# Altium integrated library NSC Amplifier.IntLib: 1615 symbols (part 36 of 44)
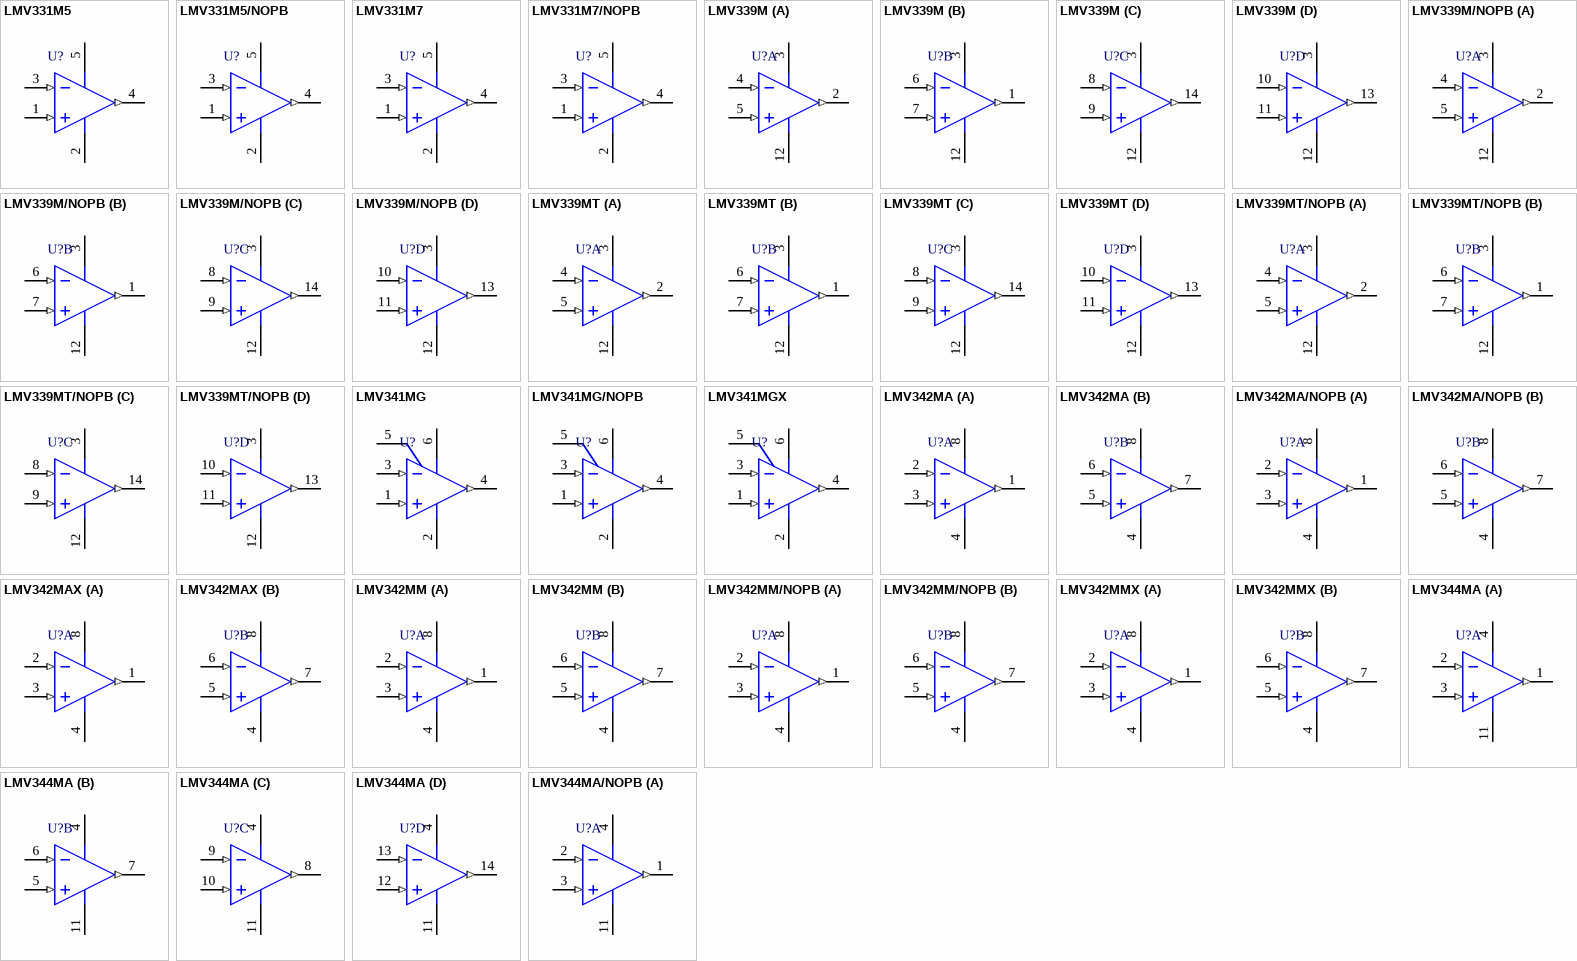
[diagram p117: symbols LMV331M5 to LMV344MA/NOPB]

## LMV344MA
designator U?
Single with Shutdown/Dual/Quad General Purpose, 2.7V,Rail-to-Rail Output, 125°C, Operational Amplifiers, 14-pin Narrow SOIC; PartNumber: LMV344MA; Manufacturer: National Semiconductor; PackageTopMarking: NSUZXYTTE#*LMV344MA; PowerWise: N; Published: 4-Dec-2008; LatestRevisionDate: 13-Jan-2009; LatestRevisionNote: Sim Model Added.; DatasheetVersion: Jan-2008; PackageVersion: revJ, Jan-1996; PackageReference: M14A; Publisher: Altium Limited; PackageDescription: Molded Package S.O., .150in Wide, 14 Lead; Supplier 1: Farnell; Supplier Part Number 1: 9490604; RoHS: N; PinCount: 14; CompType: Amplifiers; Code_JEDEC: MS-012AB; Code_IPC: SOIC127P600-14; ComponentLink1Description: LMV344 Datasheet; ComponentLink1URL: http://www.national.com/ds/LM/LMV344.pdf; ComponentLink2Description: LMV344 Web Page; ComponentLink2URL: http://www.national.com/pf/LM/LMV344.html; ComponentLink3Description: M14A Package Page; ComponentLink3URL: http://www.national.com/packaging/folders/m14a.html
footprint M14A_N (SOIC, 14-Leads, Body 8.6x3.9mm, Pitch 1.27mm, IPC Medium Density)
footprint M14A_L (SOIC, 14-Leads, Body 8.6x3.9mm, Pitch 1.27mm, IPC High Density)
footprint M14A_M (SOIC, 14-Leads, Body 8.6x3.9mm, Pitch 1.27mm, IPC Low Density)
simulation model LMV342 (SUBCKT)
pins on every part: 4 V+ (power), 11 V- (power)
part A pins: 1 OUTA (out), 2 INA- (in), 3 INA+ (in)
part B pins: 5 INB+ (in), 6 INB- (in), 7 OUTB (out)
part C pins: 8 OUTC (out), 9 INC- (in), 10 INC+ (in)
part D pins: 12 IND+ (in), 13 IND- (in), 14 OUTD (out)

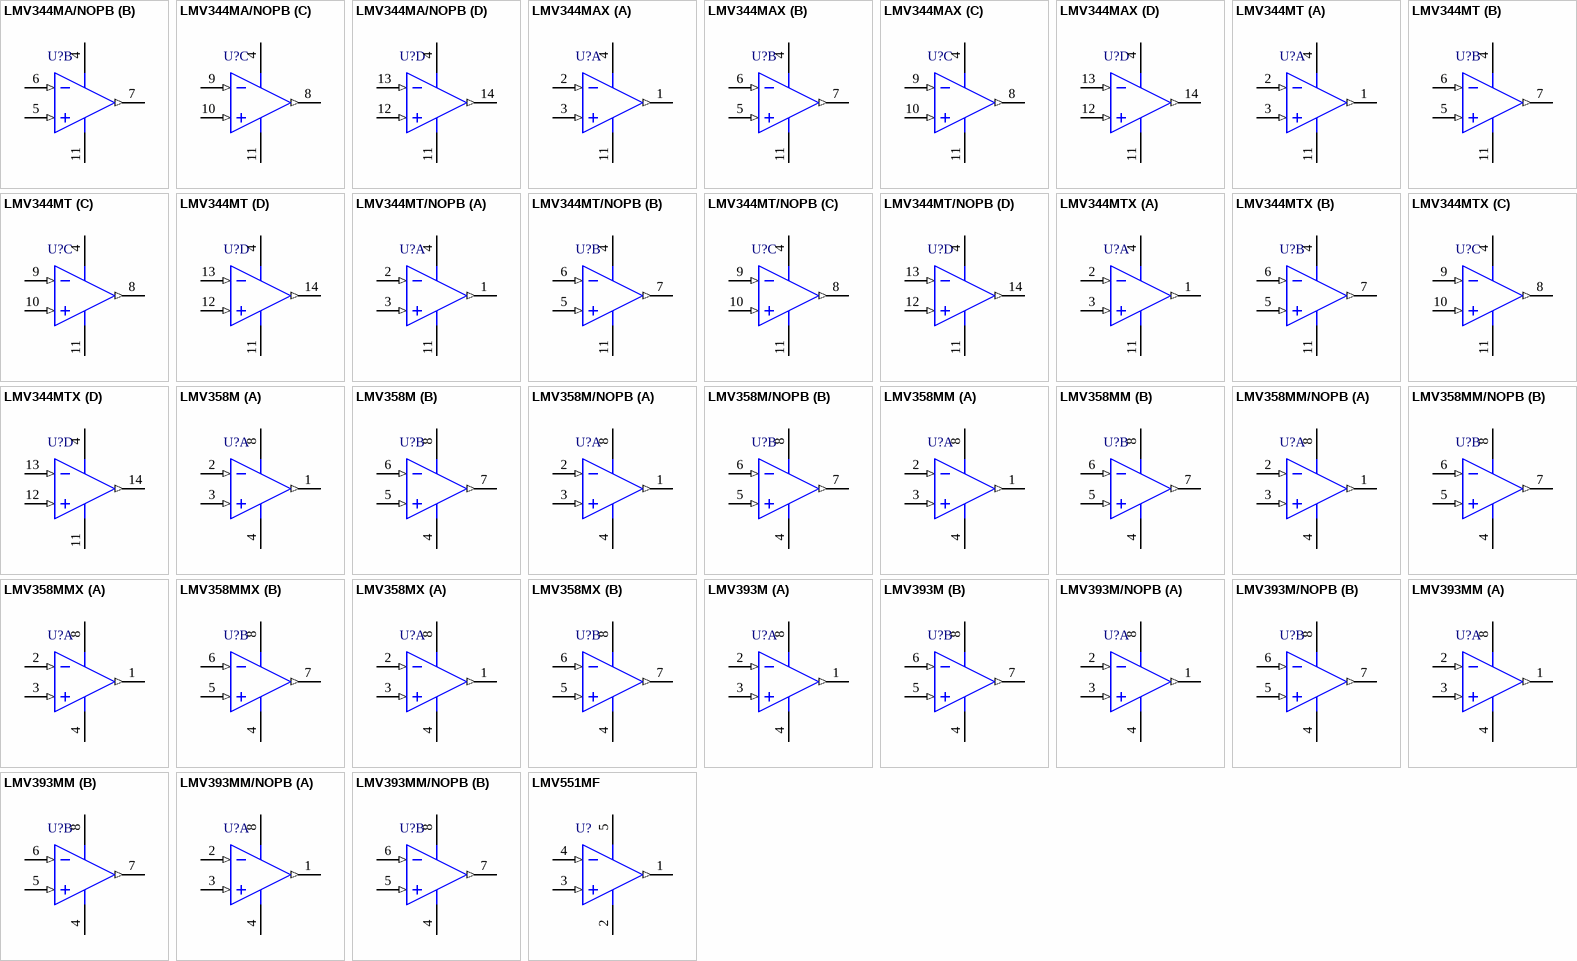
[diagram p67: symbols LMV344MA/NOPB to LMV551MF]

## LMV344MA/NOPB
designator U?
Single with Shutdown/Dual/Quad General Purpose, 2.7V,Rail-to-Rail Output, 125°C, Operational Amplifiers, 14-pin Narrow SOIC, Pb-Free; PartNumber: LMV344MA/NOPB; Manufacturer: National Semiconductor; PackageTopMarking: NSUZXYTTE#*LMV344MA; PowerWise: N; Published: 1-Mar-2010; DatasheetVersion: Jan-2008; PackageVersion: revJ, Jan-1996; PackageReference: M14A; Publisher: Altium Limited; PackageDescription: Molded Package S.O., .150in Wide, 14 Lead; Supplier 1: Digi-Key; Supplier Part Number 1: LMV344MA-ND; RoHS: Y; PinCount: 14; CompType: Amplifiers; Code_JEDEC: MS-012AB; Code_IPC: SOIC127P600-14; ComponentLink1Description: LMV344 Datasheet; ComponentLink1URL: http://www.national.com/ds/LM/LMV344.pdf; ComponentLink2Description: LMV344 Web Page; ComponentLink2URL: http://www.national.com/pf/LM/LMV344.html; ComponentLink3Description: M14A Package Page; ComponentLink3URL: http://www.national.com/packaging/folders/m14a.html
footprint M14A_N (SOIC, 14-Leads, Body 8.6x3.9mm, Pitch 1.27mm, IPC Medium Density)
footprint M14A_L (SOIC, 14-Leads, Body 8.6x3.9mm, Pitch 1.27mm, IPC High Density)
footprint M14A_M (SOIC, 14-Leads, Body 8.6x3.9mm, Pitch 1.27mm, IPC Low Density)
simulation model LMV342 (SUBCKT)
pins on every part: 4 V+ (power), 11 V- (power)
part A pins: 1 OUTA (out), 2 INA- (in), 3 INA+ (in)
part B pins: 5 INB+ (in), 6 INB- (in), 7 OUTB (out)
part C pins: 8 OUTC (out), 9 INC- (in), 10 INC+ (in)
part D pins: 12 IND+ (in), 13 IND- (in), 14 OUTD (out)

## LMV344MAX
designator U?
Single with Shutdown/Dual/Quad General Purpose, 2.7V,Rail-to-Rail Output, 125°C, Operational Amplifiers, 14-pin Narrow SOIC; PartNumber: LMV344MAX; Manufacturer: National Semiconductor; PackageTopMarking: NSUZXYTTE#*LMV344MA; PowerWise: N; Published: 1-Mar-2010; DatasheetVersion: Jan-2008; PackageVersion: revJ, Jan-1996; PackageReference: M14A; Publisher: Altium Limited; PackageDescription: Molded Package S.O., .150in Wide, 14 Lead; RoHS: N; PinCount: 14; CompType: Amplifiers; Code_JEDEC: MS-012AB; Code_IPC: SOIC127P600-14; ComponentLink1Description: LMV344 Datasheet; ComponentLink1URL: http://www.national.com/ds/LM/LMV344.pdf; ComponentLink2Description: LMV344 Web Page; ComponentLink2URL: http://www.national.com/pf/LM/LMV344.html; ComponentLink3Description: M14A Package Page; ComponentLink3URL: http://www.national.com/packaging/folders/m14a.html
footprint M14A_N (SOIC, 14-Leads, Body 8.6x3.9mm, Pitch 1.27mm, IPC Medium Density)
footprint M14A_L (SOIC, 14-Leads, Body 8.6x3.9mm, Pitch 1.27mm, IPC High Density)
footprint M14A_M (SOIC, 14-Leads, Body 8.6x3.9mm, Pitch 1.27mm, IPC Low Density)
simulation model LMV342 (SUBCKT)
pins on every part: 4 V+ (power), 11 V- (power)
part A pins: 1 OUTA (out), 2 INA- (in), 3 INA+ (in)
part B pins: 5 INB+ (in), 6 INB- (in), 7 OUTB (out)
part C pins: 8 OUTC (out), 9 INC- (in), 10 INC+ (in)
part D pins: 12 IND+ (in), 13 IND- (in), 14 OUTD (out)

## LMV344MT
designator U?
Single with Shutdown/Dual/Quad General Purpose, 2.7V,Rail-to-Rail Output, 125°C, Operational Amplifiers, 14-pin TSSOP; PartNumber: LMV344MT; Manufacturer: National Semiconductor; PackageTopMarking: NSZXYTT*LMV34*4MT; PowerWise: N; Published: 4-Dec-2008; LatestRevisionDate: 13-Jan-2009; LatestRevisionNote: Sim Model Added.; DatasheetVersion: Jan-2008; PackageVersion: revD, Jun-2003; PackageReference: MTC14; Publisher: Altium Limited; PackageDescription: Molded TSSOP, JEDEC, 5 x 4.4 x 0.9mm Body, 14 Lead, 0.65mm Pitch; Supplier 1: Digi-Key; Supplier Part Number 1: LMV344MT-ND; Supplier 2: Farnell; Supplier Part Number 2: 1286954; RoHS: N; PinCount: 14; CompType: Amplifiers; Code_JEDEC: MO-153-AB-1; ComponentLink1Description: LMV344 Datasheet; ComponentLink1URL: http://www.national.com/ds/LM/LMV344.pdf; ComponentLink2Description: LMV344 Web Page; ComponentLink2URL: http://www.national.com/pf/LM/LMV344.html; ComponentLink3Description: MTC14 Package Page; ComponentLink3URL: http://www.national.com/packaging/folders/mtc14.html
footprint MTC14_N (TSOP, 14-Leads, Body 5x4.4mm, Pitch 0.65mm, IPC Medium Density)
footprint MTC14_L (TSOP, 14-Leads, Body 5x4.4mm, Pitch 0.65mm, IPC High Density)
footprint MTC14_M (TSOP, 14-Leads, Body 5x4.4mm, Pitch 0.65mm, IPC Low Density)
simulation model LMV342 (SUBCKT)
pins on every part: 4 V+ (power), 11 V- (power)
part A pins: 1 OUTA (out), 2 INA- (in), 3 INA+ (in)
part B pins: 5 INB+ (in), 6 INB- (in), 7 OUTB (out)
part C pins: 8 OUTC (out), 9 INC- (in), 10 INC+ (in)
part D pins: 12 IND+ (in), 13 IND- (in), 14 OUTD (out)

## LMV344MT/NOPB
designator U?
Single with Shutdown/Dual/Quad General Purpose, 2.7V,Rail-to-Rail Output, 125°C, Operational Amplifiers, 14-pin TSSOP, Pb-Free; PartNumber: LMV344MT/NOPB; Manufacturer: National Semiconductor; PackageTopMarking: NSZXYTT*LMV34*4MT; PowerWise: N; Published: 1-Mar-2010; DatasheetVersion: Jan-2008; PackageVersion: revD, Jun-2003; PackageReference: MTC14; Publisher: Altium Limited; PackageDescription: Molded TSSOP, JEDEC, 5 x 4.4 x 0.9mm Body, 14 Lead, 0.65mm Pitch; Supplier 1: Digi-Key; Supplier Part Number 1: LMV344MT/NOPB-ND; Supplier 2: Farnell; Supplier Part Number 2: 1693972; RoHS: Y; PinCount: 14; CompType: Amplifiers; Code_JEDEC: MO-153-AB-1; ComponentLink1Description: LMV344 Datasheet; ComponentLink1URL: http://www.national.com/ds/LM/LMV344.pdf; ComponentLink2Description: LMV344 Web Page; ComponentLink2URL: http://www.national.com/pf/LM/LMV344.html; ComponentLink3Description: MTC14 Package Page; ComponentLink3URL: http://www.national.com/packaging/folders/mtc14.html
footprint MTC14_N (TSOP, 14-Leads, Body 5x4.4mm, Pitch 0.65mm, IPC Medium Density)
footprint MTC14_L (TSOP, 14-Leads, Body 5x4.4mm, Pitch 0.65mm, IPC High Density)
footprint MTC14_M (TSOP, 14-Leads, Body 5x4.4mm, Pitch 0.65mm, IPC Low Density)
simulation model LMV342 (SUBCKT)
pins on every part: 4 V+ (power), 11 V- (power)
part A pins: 1 OUTA (out), 2 INA- (in), 3 INA+ (in)
part B pins: 5 INB+ (in), 6 INB- (in), 7 OUTB (out)
part C pins: 8 OUTC (out), 9 INC- (in), 10 INC+ (in)
part D pins: 12 IND+ (in), 13 IND- (in), 14 OUTD (out)

## LMV344MTX
designator U?
Single with Shutdown/Dual/Quad General Purpose, 2.7V,Rail-to-Rail Output, 125°C, Operational Amplifiers, 14-pin TSSOP; PartNumber: LMV344MTX; Manufacturer: National Semiconductor; PackageTopMarking: NSZXYTT*LMV34*4MT; PowerWise: N; Published: 1-Mar-2010; DatasheetVersion: Jan-2008; PackageVersion: revD, Jun-2003; PackageReference: MTC14; Publisher: Altium Limited; PackageDescription: Molded TSSOP, JEDEC, 5 x 4.4 x 0.9mm Body, 14 Lead, 0.65mm Pitch; Supplier 1: Digi-Key; Supplier Part Number 1: LMV344MTXTR-ND; Supplier 2: Digi-Key; Supplier Part Number 2: LMV344MTXCT-ND; RoHS: N; PinCount: 14; CompType: Amplifiers; Code_JEDEC: MO-153-AB-1; ComponentLink1Description: LMV344 Datasheet; ComponentLink1URL: http://www.national.com/ds/LM/LMV344.pdf; ComponentLink2Description: LMV344 Web Page; ComponentLink2URL: http://www.national.com/pf/LM/LMV344.html; ComponentLink3Description: MTC14 Package Page; ComponentLink3URL: http://www.national.com/packaging/folders/mtc14.html
footprint MTC14_N (TSOP, 14-Leads, Body 5x4.4mm, Pitch 0.65mm, IPC Medium Density)
footprint MTC14_L (TSOP, 14-Leads, Body 5x4.4mm, Pitch 0.65mm, IPC High Density)
footprint MTC14_M (TSOP, 14-Leads, Body 5x4.4mm, Pitch 0.65mm, IPC Low Density)
simulation model LMV342 (SUBCKT)
pins on every part: 4 V+ (power), 11 V- (power)
part A pins: 1 OUTA (out), 2 INA- (in), 3 INA+ (in)
part B pins: 5 INB+ (in), 6 INB- (in), 7 OUTB (out)
part C pins: 8 OUTC (out), 9 INC- (in), 10 INC+ (in)
part D pins: 12 IND+ (in), 13 IND- (in), 14 OUTD (out)

## LMV358M
designator U?
General Purpose, Low Voltage, Rail-to-Rail Output Operational Amplifiers, 8-pin Narrow SOIC; PartNumber: LMV358M; Manufacturer: National Semiconductor; PackageTopMarking: NSZXTT*LMV*358M; PowerWise: N; Published: 4-Dec-2008; LatestRevisionDate: 13-Jan-2009; LatestRevisionNote: Sim Model Added.; DatasheetVersion: Sep-2009; PackageVersion: revM, May-2009; PackageReference: M08A; Publisher: Altium Limited; PackageDescription: SOIC Narrow, 4.9 x 3.9 x 1.45mm, 8 Lead, 1.27mm Pitch; Supplier 1: Farnell; Supplier Part Number 1: 9306730; RoHS: N; PinCount: 8; CompType: Amplifiers; Code_JEDEC: MS-012-AA; Code_IPC: SOIC127P600-8; ComponentLink1Description: LMV358 Datasheet; ComponentLink1URL: http://www.national.com/ds/LM/LMV358.pdf; ComponentLink2Description: LMV358 Web Page; ComponentLink2URL: http://www.national.com/pf/LM/LMV358.html; ComponentLink3Description: M08A Package Page; ComponentLink3URL: http://www.national.com/packaging/folders/m08a.html
footprint M08A_N (SOIC, 8-Leads, Body 4.9x3.9mm, Pitch 1.27mm, IPC Medium Density)
footprint M08A_L (SOIC, 8-Leads, Body 4.9x3.9mm, Pitch 1.27mm, IPC High Density)
footprint M08A_M (SOIC, 8-Leads, Body 4.9x3.9mm, Pitch 1.27mm, IPC Low Density)
simulation model LMV358 (SUBCKT)
pins on every part: 4 V- (power), 8 V+ (power)
part A pins: 1 OUTA (out), 2 INA- (in), 3 INA+ (in)
part B pins: 5 INB+ (in), 6 INB- (in), 7 OUTB (out)

## LMV358M/NOPB
designator U?
General Purpose, Low Voltage, Rail-to-Rail Output Operational Amplifiers, 8-pin Narrow SOIC, Pb-Free; PartNumber: LMV358M/NOPB; Manufacturer: National Semiconductor; PackageTopMarking: NSZXTT*LMV*358M; PowerWise: N; Published: 1-Mar-2010; DatasheetVersion: Sep-2009; PackageVersion: revM, May-2009; PackageReference: M08A; Publisher: Altium Limited; PackageDescription: SOIC Narrow, 4.9 x 3.9 x 1.45mm, 8 Lead, 1.27mm Pitch; Supplier 1: Digi-Key; Supplier Part Number 1: LMV358M-ND; Supplier 2: Farnell; Supplier Part Number 2: 1202969; RoHS: Y; PinCount: 8; CompType: Amplifiers; Code_JEDEC: MS-012-AA; Code_IPC: SOIC127P600-8; ComponentLink1Description: LMV358 Datasheet; ComponentLink1URL: http://www.national.com/ds/LM/LMV358.pdf; ComponentLink2Description: LMV358 Web Page; ComponentLink2URL: http://www.national.com/pf/LM/LMV358.html; ComponentLink3Description: M08A Package Page; ComponentLink3URL: http://www.national.com/packaging/folders/m08a.html
footprint M08A_N (SOIC, 8-Leads, Body 4.9x3.9mm, Pitch 1.27mm, IPC Medium Density)
footprint M08A_L (SOIC, 8-Leads, Body 4.9x3.9mm, Pitch 1.27mm, IPC High Density)
footprint M08A_M (SOIC, 8-Leads, Body 4.9x3.9mm, Pitch 1.27mm, IPC Low Density)
simulation model LMV358 (SUBCKT)
pins on every part: 4 V- (power), 8 V+ (power)
part A pins: 1 OUTA (out), 2 INA- (in), 3 INA+ (in)
part B pins: 5 INB+ (in), 6 INB- (in), 7 OUTB (out)

## LMV358MM
designator U?
General Purpose, Low Voltage, Rail-to-Rail Output Operational Amplifiers, 8-pin Mini SOIC; PartNumber: LMV358MM; Manufacturer: National Semiconductor; PackageTopMarking: ZXTT*V358; PowerWise: N; Published: 4-Dec-2008; LatestRevisionDate: 13-Jan-2009; LatestRevisionNote: Sim Model Added.; DatasheetVersion: Sep-2009; PackageVersion: revF, Apr-2008; PackageReference: MUA08A; Publisher: Altium Limited; PackageDescription: MINI SOIC, .118 x .118 x .034in, 8 Lead, .0256in Pitch; Supplier 1: Digi-Key; Supplier Part Number 1: LMV358MMTR-ND; Supplier 2: Digi-Key; Supplier Part Number 2: LMV358MMCT-ND; RoHS: N; PinCount: 8; CompType: Amplifiers; Code_JEDEC: MO-187-AA; ComponentLink1Description: LMV358 Datasheet; ComponentLink1URL: http://www.national.com/ds/LM/LMV358.pdf; ComponentLink2Description: LMV358 Web Page; ComponentLink2URL: http://www.national.com/pf/LM/LMV358.html; ComponentLink3Description: MUA08A Package Page; ComponentLink3URL: http://www.national.com/packaging/folders/mua08a.html
footprint MUA08A_N (TSOP, 8-Leads, Body 3x3mm, Pitch 0.65mm, IPC Medium Density)
footprint MUA08A_L (TSOP, 8-Leads, Body 3x3mm, Pitch 0.65mm, IPC High Density)
footprint MUA08A_M (TSOP, 8-Leads, Body 3x3mm, Pitch 0.65mm, IPC Low Density)
simulation model LMV358 (SUBCKT)
pins on every part: 4 V- (power), 8 V+ (power)
part A pins: 1 OUTA (out), 2 INA- (in), 3 INA+ (in)
part B pins: 5 INB+ (in), 6 INB- (in), 7 OUTB (out)

## LMV358MM/NOPB
designator U?
General Purpose, Low Voltage, Rail-to-Rail Output Operational Amplifiers, 8-pin Mini SOIC, Pb-Free; PartNumber: LMV358MM/NOPB; Manufacturer: National Semiconductor; PackageTopMarking: ZXTT*V358; PowerWise: N; Published: 1-Mar-2010; DatasheetVersion: Sep-2009; PackageVersion: revF, Apr-2008; PackageReference: MUA08A; Publisher: Altium Limited; PackageDescription: MINI SOIC, .118 x .118 x .034in, 8 Lead, .0256in Pitch; Supplier 1: Digi-Key; Supplier Part Number 1: LMV358MM/NOPBTR-ND; Supplier 2: Digi-Key; Supplier Part Number 2: LMV358MM/NOPBCT-ND; Supplier 3: Digi-Key; Supplier Part Number 3: LMV358MM/NOPBDKR-ND; Supplier 4: Farnell; Supplier Part Number 4: 1468904; RoHS: Y; PinCount: 8; CompType: Amplifiers; Code_JEDEC: MO-187-AA; ComponentLink1Description: LMV358 Datasheet; ComponentLink1URL: http://www.national.com/ds/LM/LMV358.pdf; ComponentLink2Description: LMV358 Web Page; ComponentLink2URL: http://www.national.com/pf/LM/LMV358.html; ComponentLink3Description: MUA08A Package Page; ComponentLink3URL: http://www.national.com/packaging/folders/mua08a.html
footprint MUA08A_N (TSOP, 8-Leads, Body 3x3mm, Pitch 0.65mm, IPC Medium Density)
footprint MUA08A_L (TSOP, 8-Leads, Body 3x3mm, Pitch 0.65mm, IPC High Density)
footprint MUA08A_M (TSOP, 8-Leads, Body 3x3mm, Pitch 0.65mm, IPC Low Density)
simulation model LMV358 (SUBCKT)
pins on every part: 4 V- (power), 8 V+ (power)
part A pins: 1 OUTA (out), 2 INA- (in), 3 INA+ (in)
part B pins: 5 INB+ (in), 6 INB- (in), 7 OUTB (out)

## LMV358MMX
designator U?
General Purpose, Low Voltage, Rail-to-Rail Output Operational Amplifiers, 8-pin Mini SOIC; PartNumber: LMV358MMX; Manufacturer: National Semiconductor; PackageTopMarking: ZXTT*V358; PowerWise: N; Published: 1-Mar-2010; DatasheetVersion: Sep-2009; PackageVersion: revF, Apr-2008; PackageReference: MUA08A; Publisher: Altium Limited; PackageDescription: MINI SOIC, .118 x .118 x .034in, 8 Lead, .0256in Pitch; RoHS: N; PinCount: 8; CompType: Amplifiers; Code_JEDEC: MO-187-AA; ComponentLink1Description: LMV358 Datasheet; ComponentLink1URL: http://www.national.com/ds/LM/LMV358.pdf; ComponentLink2Description: LMV358 Web Page; ComponentLink2URL: http://www.national.com/pf/LM/LMV358.html; ComponentLink3Description: MUA08A Package Page; ComponentLink3URL: http://www.national.com/packaging/folders/mua08a.html
footprint MUA08A_N (TSOP, 8-Leads, Body 3x3mm, Pitch 0.65mm, IPC Medium Density)
footprint MUA08A_L (TSOP, 8-Leads, Body 3x3mm, Pitch 0.65mm, IPC High Density)
footprint MUA08A_M (TSOP, 8-Leads, Body 3x3mm, Pitch 0.65mm, IPC Low Density)
simulation model LMV358 (SUBCKT)
pins on every part: 4 V- (power), 8 V+ (power)
part A pins: 1 OUTA (out), 2 INA- (in), 3 INA+ (in)
part B pins: 5 INB+ (in), 6 INB- (in), 7 OUTB (out)

## LMV358MX
designator U?
General Purpose, Low Voltage, Rail-to-Rail Output Operational Amplifiers, 8-pin Narrow SOIC; PartNumber: LMV358MX; Manufacturer: National Semiconductor; PackageTopMarking: NSZXTT*LMV*358M; PowerWise: N; Published: 1-Mar-2010; DatasheetVersion: Sep-2009; PackageVersion: revM, May-2009; PackageReference: M08A; Publisher: Altium Limited; PackageDescription: SOIC Narrow, 4.9 x 3.9 x 1.45mm, 8 Lead, 1.27mm Pitch; RoHS: N; PinCount: 8; CompType: Amplifiers; Code_JEDEC: MS-012-AA; Code_IPC: SOIC127P600-8; ComponentLink1Description: LMV358 Datasheet; ComponentLink1URL: http://www.national.com/ds/LM/LMV358.pdf; ComponentLink2Description: LMV358 Web Page; ComponentLink2URL: http://www.national.com/pf/LM/LMV358.html; ComponentLink3Description: M08A Package Page; ComponentLink3URL: http://www.national.com/packaging/folders/m08a.html
footprint M08A_N (SOIC, 8-Leads, Body 4.9x3.9mm, Pitch 1.27mm, IPC Medium Density)
footprint M08A_L (SOIC, 8-Leads, Body 4.9x3.9mm, Pitch 1.27mm, IPC High Density)
footprint M08A_M (SOIC, 8-Leads, Body 4.9x3.9mm, Pitch 1.27mm, IPC Low Density)
simulation model LMV358 (SUBCKT)
pins on every part: 4 V- (power), 8 V+ (power)
part A pins: 1 OUTA (out), 2 INA- (in), 3 INA+ (in)
part B pins: 5 INB+ (in), 6 INB- (in), 7 OUTB (out)

## LMV393M
designator U?
Dual General Purpose, Low Voltage, Tiny Pack Comparator, 8-pin Narrow SOIC; PartNumber: LMV393M; Manufacturer: National Semiconductor; PackageTopMarking: NSZXTT*LMV*393M; PowerWise: Y; CompType: Amplifiers; Published: 4-Dec-2008; LatestRevisionDate: 13-Jan-2009; LatestRevisionNote: Sim Model Added.; DatasheetVersion: May-2007; PackageVersion: revM, May-2009; PackageReference: M08A; Publisher: Altium Limited; PackageDescription: SOIC Narrow, 4.9 x 3.9 x 1.45mm, 8 Lead, 1.27mm Pitch; Supplier 1: Farnell; Supplier Part Number 1: 9306773; RoHS: N; PinCount: 8; Code_JEDEC: MS-012-AA; Code_IPC: SOIC127P600-8; ComponentLink1Description: LMV393 Datasheet; ComponentLink1URL: http://www.national.com/ds/LM/LMV393.pdf; ComponentLink2Description: LMV393 Web Page; ComponentLink2URL: http://www.national.com/pf/LM/LMV393.html; ComponentLink3Description: M08A Package Page; ComponentLink3URL: http://www.national.com/packaging/folders/m08a.html
footprint M08A_N (SOIC, 8-Leads, Body 4.9x3.9mm, Pitch 1.27mm, IPC Medium Density)
footprint M08A_L (SOIC, 8-Leads, Body 4.9x3.9mm, Pitch 1.27mm, IPC High Density)
footprint M08A_M (SOIC, 8-Leads, Body 4.9x3.9mm, Pitch 1.27mm, IPC Low Density)
simulation model LMV393 (SUBCKT)
pins on every part: 4 V- (power), 8 V+ (power)
part A pins: 1 OUTA (out), 2 INA- (in), 3 INA+ (in)
part B pins: 5 INB+ (in), 6 INB- (in), 7 OUTB (out)

## LMV393M/NOPB
designator U?
Dual General Purpose, Low Voltage, Tiny Pack Comparator, 8-pin Narrow SOIC, Pb-Free; PartNumber: LMV393M/NOPB; Manufacturer: National Semiconductor; PackageTopMarking: NSZXTT*LMV*393M; PowerWise: Y; CompType: Amplifiers; Published: 1-Mar-2010; DatasheetVersion: May-2007; PackageVersion: revM, May-2009; PackageReference: M08A; Publisher: Altium Limited; PackageDescription: SOIC Narrow, 4.9 x 3.9 x 1.45mm, 8 Lead, 1.27mm Pitch; Supplier 1: Digi-Key; Supplier Part Number 1: LMV393M-ND; Supplier 2: Farnell; Supplier Part Number 2: 1693973; RoHS: Y; PinCount: 8; Code_JEDEC: MS-012-AA; Code_IPC: SOIC127P600-8; ComponentLink1Description: LMV393 Datasheet; ComponentLink1URL: http://www.national.com/ds/LM/LMV393.pdf; ComponentLink2Description: LMV393 Web Page; ComponentLink2URL: http://www.national.com/pf/LM/LMV393.html; ComponentLink3Description: M08A Package Page; ComponentLink3URL: http://www.national.com/packaging/folders/m08a.html
footprint M08A_N (SOIC, 8-Leads, Body 4.9x3.9mm, Pitch 1.27mm, IPC Medium Density)
footprint M08A_L (SOIC, 8-Leads, Body 4.9x3.9mm, Pitch 1.27mm, IPC High Density)
footprint M08A_M (SOIC, 8-Leads, Body 4.9x3.9mm, Pitch 1.27mm, IPC Low Density)
simulation model LMV393 (SUBCKT)
pins on every part: 4 V- (power), 8 V+ (power)
part A pins: 1 OUTA (out), 2 INA- (in), 3 INA+ (in)
part B pins: 5 INB+ (in), 6 INB- (in), 7 OUTB (out)

## LMV393MM
designator U?
Dual General Purpose, Low Voltage, Tiny Pack Comparator, 8-pin Mini SOIC; PartNumber: LMV393MM; Manufacturer: National Semiconductor; PackageTopMarking: ZXTT*V393; PowerWise: Y; CompType: Amplifiers; Published: 4-Dec-2008; LatestRevisionDate: 13-Jan-2009; LatestRevisionNote: Sim Model Added.; DatasheetVersion: May-2007; PackageVersion: revF, Apr-2008; PackageReference: MUA08A; Publisher: Altium Limited; PackageDescription: MINI SOIC, .118 x .118 x .034in, 8 Lead, .0256in Pitch; RoHS: N; PinCount: 8; Code_JEDEC: MO-187-AA; ComponentLink1Description: LMV393 Datasheet; ComponentLink1URL: http://www.national.com/ds/LM/LMV393.pdf; ComponentLink2Description: LMV393 Web Page; ComponentLink2URL: http://www.national.com/pf/LM/LMV393.html; ComponentLink3Description: MUA08A Package Page; ComponentLink3URL: http://www.national.com/packaging/folders/mua08a.html
footprint MUA08A_N (TSOP, 8-Leads, Body 3x3mm, Pitch 0.65mm, IPC Medium Density)
footprint MUA08A_L (TSOP, 8-Leads, Body 3x3mm, Pitch 0.65mm, IPC High Density)
footprint MUA08A_M (TSOP, 8-Leads, Body 3x3mm, Pitch 0.65mm, IPC Low Density)
simulation model LMV393 (SUBCKT)
pins on every part: 4 V- (power), 8 V+ (power)
part A pins: 1 OUTA (out), 2 INA- (in), 3 INA+ (in)
part B pins: 5 INB+ (in), 6 INB- (in), 7 OUTB (out)

## LMV393MM/NOPB
designator U?
Dual General Purpose, Low Voltage, Tiny Pack Comparator, 8-pin Mini SOIC, Pb-Free; PartNumber: LMV393MM/NOPB; Manufacturer: National Semiconductor; PackageTopMarking: ZXTT*V393; PowerWise: Y; CompType: Amplifiers; Published: 1-Mar-2010; DatasheetVersion: May-2007; PackageVersion: revF, Apr-2008; PackageReference: MUA08A; Publisher: Altium Limited; PackageDescription: MINI SOIC, .118 x .118 x .034in, 8 Lead, .0256in Pitch; Supplier 1: Digi-Key; Supplier Part Number 1: LMV393MMTR-ND; Supplier 2: Digi-Key; Supplier Part Number 2: LMV393MMCT-ND; Supplier 3: Digi-Key; Supplier Part Number 3: LMV393MMDKR-ND; Supplier 4: Farnell; Supplier Part Number 4: 1474210; RoHS: Y; PinCount: 8; Code_JEDEC: MO-187-AA; ComponentLink1Description: LMV393 Datasheet; ComponentLink1URL: http://www.national.com/ds/LM/LMV393.pdf; ComponentLink2Description: LMV393 Web Page; ComponentLink2URL: http://www.national.com/pf/LM/LMV393.html; ComponentLink3Description: MUA08A Package Page; ComponentLink3URL: http://www.national.com/packaging/folders/mua08a.html
footprint MUA08A_N (TSOP, 8-Leads, Body 3x3mm, Pitch 0.65mm, IPC Medium Density)
footprint MUA08A_L (TSOP, 8-Leads, Body 3x3mm, Pitch 0.65mm, IPC High Density)
footprint MUA08A_M (TSOP, 8-Leads, Body 3x3mm, Pitch 0.65mm, IPC Low Density)
simulation model LMV393 (SUBCKT)
pins on every part: 4 V- (power), 8 V+ (power)
part A pins: 1 OUTA (out), 2 INA- (in), 3 INA+ (in)
part B pins: 5 INB+ (in), 6 INB- (in), 7 OUTB (out)

## LMV551MF
designator U?
3 MHz, Micropower RRO Amplifier, 5-pin SOT-23; PartNumber: LMV551MF; Manufacturer: National Semiconductor; PackageTopMarking: AF3A*XTT; PowerWise: N; CompType: Amplifiers; Published: 4-Dec-2008; LatestRevisionDate: 7-Apr-2009; LatestRevisionNote: Sim port map fixed.; DatasheetVersion: Oct-2008; PackageVersion: revD, Aug-2008; PackageReference: MF05A; Publisher: Altium Limited; PackageDescription: Molded SOT-23, .115 x .063 x .040 in Body, 5 Lead, .0375 in Pitch; Supplier 1: Farnell; Supplier Part Number 1: 1663004; RoHS: Y; PinCount: 5; ComponentLink1Description: LMV551 Datasheet; ComponentLink1URL: http://www.national.com/ds/LM/LMV551.pdf; ComponentLink2Description: LMV551 Web Page; ComponentLink2URL: http://www.national.com/pf/LM/LMV551.html; ComponentLink3Description: MF05A Package Page; ComponentLink3URL: http://www.national.com/packaging/folders/mf05a.html
footprint MF05A_N (SOT23, 5-Leads, Body 2.9x1.6mm, Pitch 0.95mm, Lead Span 2.8mm, IPC Medium Density)
footprint MF05A_L (SOT23, 5-Leads, Body 2.9x1.6mm, Pitch 0.95mm, Lead Span 2.8mm, IPC High Density)
footprint MF05A_M (SOT23, 5-Leads, Body 2.9x1.6mm, Pitch 0.95mm, Lead Span 2.8mm, IPC Low Density)
simulation model LMV551 (SUBCKT)
pins: 1 OUT (out), 2 V- (power), 3 IN+ (in), 4 IN- (in), 5 V+ (power)

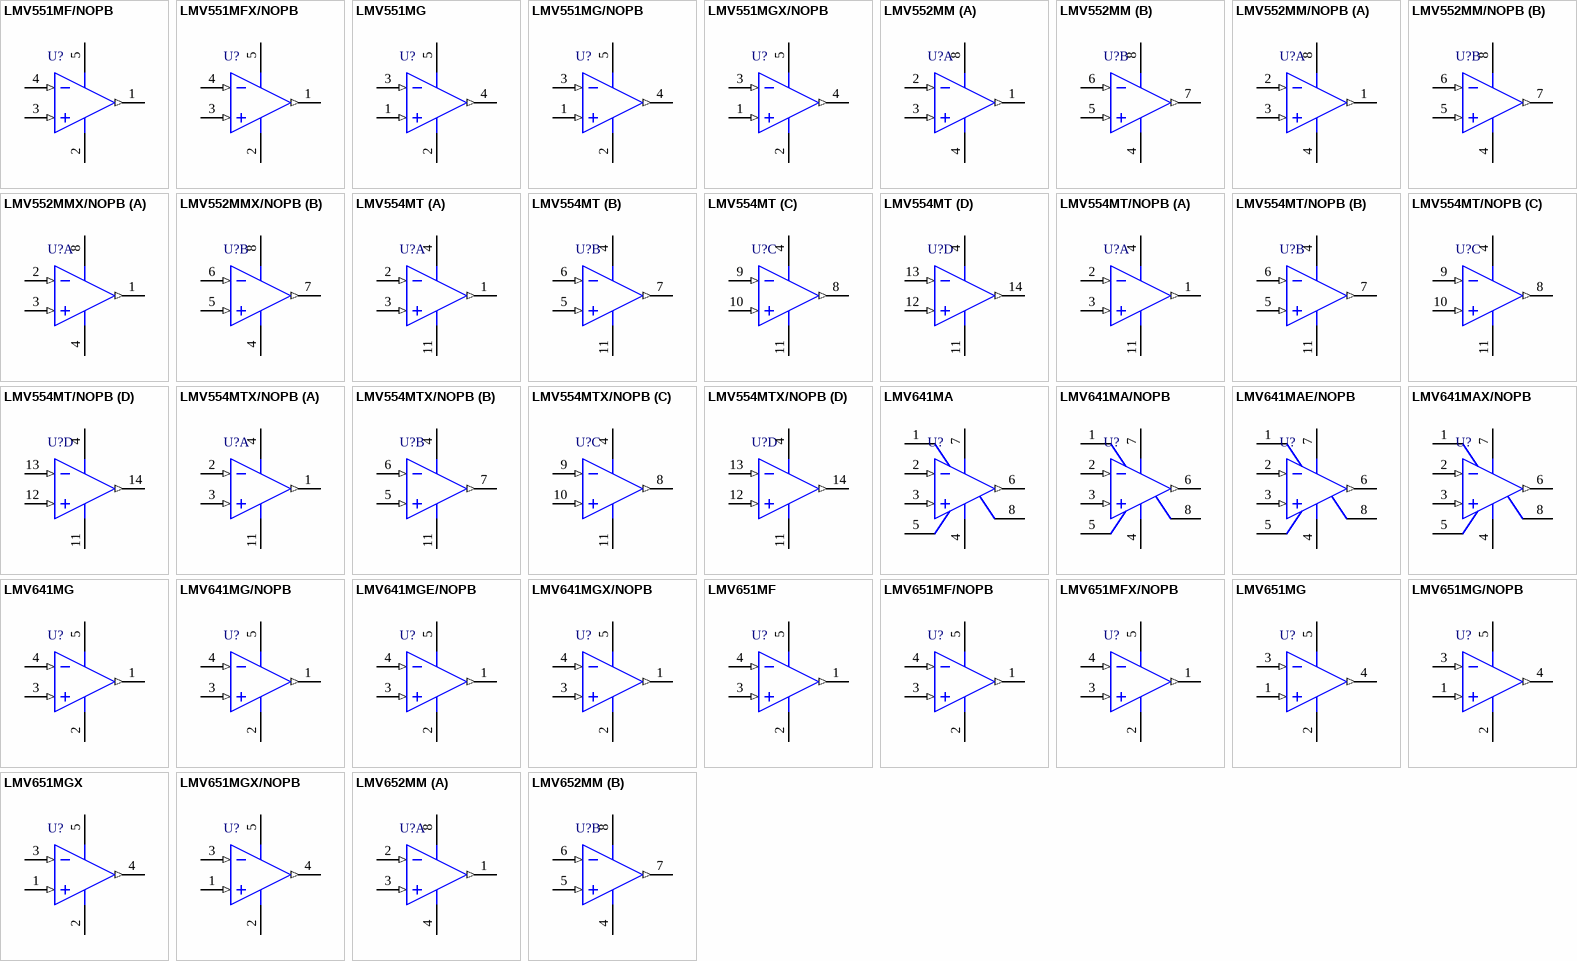
[diagram p68: symbols LMV551MF/NOPB to LMV652MM]

## LMV551MF/NOPB
designator U?
3 MHz, Micropower RRO Amplifier, 5-pin SOT-23, Pb-Free; PartNumber: LMV551MF/NOPB; Manufacturer: National Semiconductor; PackageTopMarking: AF3A*XTT; PowerWise: N; CompType: Amplifiers; Published: 1-Mar-2010; DatasheetVersion: Oct-2008; PackageVersion: revD, Aug-2008; PackageReference: MF05A; Publisher: Altium Limited; PackageDescription: Molded SOT-23, .115 x .063 x .040 in Body, 5 Lead, .0375 in Pitch; Supplier 1: Digi-Key; Supplier Part Number 1: LMV551MFTR-ND; Supplier 2: Digi-Key; Supplier Part Number 2: LMV551MFCT-ND; Supplier 3: Digi-Key; Supplier Part Number 3: LMV551MFDKR-ND; RoHS: Y; PinCount: 5; ComponentLink1Description: LMV551 Datasheet; ComponentLink1URL: http://www.national.com/ds/LM/LMV551.pdf; ComponentLink2Description: LMV551 Web Page; ComponentLink2URL: http://www.national.com/pf/LM/LMV551.html; ComponentLink3Description: MF05A Package Page; ComponentLink3URL: http://www.national.com/packaging/folders/mf05a.html
footprint MF05A_N (SOT23, 5-Leads, Body 2.9x1.6mm, Pitch 0.95mm, Lead Span 2.8mm, IPC Medium Density)
footprint MF05A_L (SOT23, 5-Leads, Body 2.9x1.6mm, Pitch 0.95mm, Lead Span 2.8mm, IPC High Density)
footprint MF05A_M (SOT23, 5-Leads, Body 2.9x1.6mm, Pitch 0.95mm, Lead Span 2.8mm, IPC Low Density)
simulation model LMV551 (SUBCKT)
pins: 1 OUT (out), 2 V- (power), 3 IN+ (in), 4 IN- (in), 5 V+ (power)

## LMV551MFX/NOPB
designator U?
3 MHz, Micropower RRO Amplifier, 5-pin SOT-23, Pb-Free; PartNumber: LMV551MFX/NOPB; Manufacturer: National Semiconductor; PackageTopMarking: AF3A*XTT; PowerWise: N; CompType: Amplifiers; Published: 1-Mar-2010; DatasheetVersion: Oct-2008; PackageVersion: revD, Aug-2008; PackageReference: MF05A; Publisher: Altium Limited; PackageDescription: Molded SOT-23, .115 x .063 x .040 in Body, 5 Lead, .0375 in Pitch; Supplier 1: Digi-Key; Supplier Part Number 1: LMV551MFX-ND; RoHS: Y; PinCount: 5; ComponentLink1Description: LMV551 Datasheet; ComponentLink1URL: http://www.national.com/ds/LM/LMV551.pdf; ComponentLink2Description: LMV551 Web Page; ComponentLink2URL: http://www.national.com/pf/LM/LMV551.html; ComponentLink3Description: MF05A Package Page; ComponentLink3URL: http://www.national.com/packaging/folders/mf05a.html
footprint MF05A_N (SOT23, 5-Leads, Body 2.9x1.6mm, Pitch 0.95mm, Lead Span 2.8mm, IPC Medium Density)
footprint MF05A_L (SOT23, 5-Leads, Body 2.9x1.6mm, Pitch 0.95mm, Lead Span 2.8mm, IPC High Density)
footprint MF05A_M (SOT23, 5-Leads, Body 2.9x1.6mm, Pitch 0.95mm, Lead Span 2.8mm, IPC Low Density)
simulation model LMV551 (SUBCKT)
pins: 1 OUT (out), 2 V- (power), 3 IN+ (in), 4 IN- (in), 5 V+ (power)

## LMV551MG
designator U?
3 MHz, Micropower RRO Amplifier, 5-pin SC-70; PartNumber: LMV551MG; Manufacturer: National Semiconductor; PackageTopMarking: A94*XTT; PowerWise: N; CompType: Amplifiers; Published: 4-Dec-2008; LatestRevisionDate: 13-Jan-2009; LatestRevisionNote: Sim Model Added.; DatasheetVersion: Oct-2008; PackageVersion: revD, Jun-2007; PackageReference: MAA05A; Publisher: Altium Limited; PackageDescription: Molded SC-70, 2 x 1.25 x .9mm, 5 Lead, 0.65mm Pitch; RoHS: Y; PinCount: 5; Code_JEITA: SC-88A; Code_JEDEC: MO-203-AA; Code_IPC: SOT353-5; ComponentLink1Description: LMV551 Datasheet; ComponentLink1URL: http://www.national.com/ds/LM/LMV551.pdf; ComponentLink2Description: LMV551 Web Page; ComponentLink2URL: http://www.national.com/pf/LM/LMV551.html; ComponentLink3Description: MAA05A Package Page; ComponentLink3URL: http://www.national.com/packaging/folders/maa05a.html
footprint MAA05A_N (SOT353, 5-Leads, Body 2x1.3mm, Pitch 0.65mm, Lead Span 2.1mm, IPC Medium Density)
footprint MAA05A_L (SOT353, 5-Leads, Body 2x1.3mm, Pitch 0.65mm, Lead Span 2.1mm, IPC High Density)
footprint MAA05A_M (SOT353, 5-Leads, Body 2x1.3mm, Pitch 0.65mm, Lead Span 2.1mm, IPC Low Density)
simulation model LMV551 (SUBCKT)
pins: 1 IN+ (in), 2 V- (power), 3 IN- (in), 4 OUT (out), 5 V+ (power)

## LMV551MG/NOPB
designator U?
3 MHz, Micropower RRO Amplifier, 5-pin SC-70, Pb-Free; PartNumber: LMV551MG/NOPB; Manufacturer: National Semiconductor; PackageTopMarking: A94*XTT; PowerWise: N; CompType: Amplifiers; Published: 1-Mar-2010; DatasheetVersion: Oct-2008; PackageVersion: revD, Jun-2007; PackageReference: MAA05A; Publisher: Altium Limited; PackageDescription: Molded SC-70, 2 x 1.25 x .9mm, 5 Lead, 0.65mm Pitch; Supplier 1: Digi-Key; Supplier Part Number 1: LMV551MGTR-ND; Supplier 2: Digi-Key; Supplier Part Number 2: LMV551MGCT-ND; Supplier 3: Digi-Key; Supplier Part Number 3: LMV551MGDKR-ND; RoHS: Y; PinCount: 5; Code_JEITA: SC-88A; Code_JEDEC: MO-203-AA; Code_IPC: SOT353-5; ComponentLink1Description: LMV551 Datasheet; ComponentLink1URL: http://www.national.com/ds/LM/LMV551.pdf; ComponentLink2Description: LMV551 Web Page; ComponentLink2URL: http://www.national.com/pf/LM/LMV551.html; ComponentLink3Description: MAA05A Package Page; ComponentLink3URL: http://www.national.com/packaging/folders/maa05a.html
footprint MAA05A_N (SOT353, 5-Leads, Body 2x1.3mm, Pitch 0.65mm, Lead Span 2.1mm, IPC Medium Density)
footprint MAA05A_L (SOT353, 5-Leads, Body 2x1.3mm, Pitch 0.65mm, Lead Span 2.1mm, IPC High Density)
footprint MAA05A_M (SOT353, 5-Leads, Body 2x1.3mm, Pitch 0.65mm, Lead Span 2.1mm, IPC Low Density)
simulation model LMV551 (SUBCKT)
pins: 1 IN+ (in), 2 V- (power), 3 IN- (in), 4 OUT (out), 5 V+ (power)

## LMV551MGX/NOPB
designator U?
3 MHz, Micropower RRO Amplifier, 5-pin SC-70, Pb-Free; PartNumber: LMV551MGX/NOPB; Manufacturer: National Semiconductor; PackageTopMarking: A94*XTT; PowerWise: N; CompType: Amplifiers; Published: 1-Mar-2010; DatasheetVersion: Oct-2008; PackageVersion: revD, Jun-2007; PackageReference: MAA05A; Publisher: Altium Limited; PackageDescription: Molded SC-70, 2 x 1.25 x .9mm, 5 Lead, 0.65mm Pitch; Supplier 1: Digi-Key; Supplier Part Number 1: LMV551MGX-ND; RoHS: Y; PinCount: 5; Code_JEITA: SC-88A; Code_JEDEC: MO-203-AA; Code_IPC: SOT353-5; ComponentLink1Description: LMV551 Datasheet; ComponentLink1URL: http://www.national.com/ds/LM/LMV551.pdf; ComponentLink2Description: LMV551 Web Page; ComponentLink2URL: http://www.national.com/pf/LM/LMV551.html; ComponentLink3Description: MAA05A Package Page; ComponentLink3URL: http://www.national.com/packaging/folders/maa05a.html
footprint MAA05A_N (SOT353, 5-Leads, Body 2x1.3mm, Pitch 0.65mm, Lead Span 2.1mm, IPC Medium Density)
footprint MAA05A_L (SOT353, 5-Leads, Body 2x1.3mm, Pitch 0.65mm, Lead Span 2.1mm, IPC High Density)
footprint MAA05A_M (SOT353, 5-Leads, Body 2x1.3mm, Pitch 0.65mm, Lead Span 2.1mm, IPC Low Density)
simulation model LMV551 (SUBCKT)
pins: 1 IN+ (in), 2 V- (power), 3 IN- (in), 4 OUT (out), 5 V+ (power)

## LMV552MM
designator U?
3 MHz, Micropower RRO Amplifier, 8-pin Mini SOIC; PartNumber: LMV552MM; Manufacturer: National Semiconductor; PackageTopMarking: ZXTT*AH3A; PowerWise: N; CompType: Amplifiers; Published: 4-Dec-2008; LatestRevisionDate: 13-Jan-2009; LatestRevisionNote: Sim Model Added.; DatasheetVersion: Oct-2008; PackageVersion: revF, Apr-2008; PackageReference: MUA08A; Publisher: Altium Limited; PackageDescription: MINI SOIC, .118 x .118 x .034in, 8 Lead, .0256in Pitch; Supplier 1: Farnell; Supplier Part Number 1: 1342346; RoHS: Y; PinCount: 8; Code_JEDEC: MO-187-AA; ComponentLink1Description: LMV552 Datasheet; ComponentLink1URL: http://www.national.com/ds/LM/LMV552.pdf; ComponentLink2Description: LMV552 Web Page; ComponentLink2URL: http://www.national.com/pf/LM/LMV552.html; ComponentLink3Description: MUA08A Package Page; ComponentLink3URL: http://www.national.com/packaging/folders/mua08a.html
footprint MUA08A_N (TSOP, 8-Leads, Body 3x3mm, Pitch 0.65mm, IPC Medium Density)
footprint MUA08A_L (TSOP, 8-Leads, Body 3x3mm, Pitch 0.65mm, IPC High Density)
footprint MUA08A_M (TSOP, 8-Leads, Body 3x3mm, Pitch 0.65mm, IPC Low Density)
simulation model LMV552 (SUBCKT)
pins on every part: 4 V- (power), 8 V+ (power)
part A pins: 1 OUTA (out), 2 INA- (in), 3 INA+ (in)
part B pins: 5 INB+ (in), 6 INB- (in), 7 OUTB (out)

## LMV552MM/NOPB
designator U?
3 MHz, Micropower RRO Amplifier, 8-pin Mini SOIC, Pb-Free; PartNumber: LMV552MM/NOPB; Manufacturer: National Semiconductor; PackageTopMarking: ZXTT*AH3A; PowerWise: N; CompType: Amplifiers; Published: 1-Mar-2010; DatasheetVersion: Oct-2008; PackageVersion: revF, Apr-2008; PackageReference: MUA08A; Publisher: Altium Limited; PackageDescription: MINI SOIC, .118 x .118 x .034in, 8 Lead, .0256in Pitch; Supplier 1: Digi-Key; Supplier Part Number 1: LMV552MMTR-ND; Supplier 2: Digi-Key; Supplier Part Number 2: LMV552MMCT-ND; Supplier 3: Digi-Key; Supplier Part Number 3: LMV552MMDKR-ND; RoHS: Y; PinCount: 8; Code_JEDEC: MO-187-AA; ComponentLink1Description: LMV552 Datasheet; ComponentLink1URL: http://www.national.com/ds/LM/LMV552.pdf; ComponentLink2Description: LMV552 Web Page; ComponentLink2URL: http://www.national.com/pf/LM/LMV552.html; ComponentLink3Description: MUA08A Package Page; ComponentLink3URL: http://www.national.com/packaging/folders/mua08a.html
footprint MUA08A_N (TSOP, 8-Leads, Body 3x3mm, Pitch 0.65mm, IPC Medium Density)
footprint MUA08A_L (TSOP, 8-Leads, Body 3x3mm, Pitch 0.65mm, IPC High Density)
footprint MUA08A_M (TSOP, 8-Leads, Body 3x3mm, Pitch 0.65mm, IPC Low Density)
simulation model LMV552 (SUBCKT)
pins on every part: 4 V- (power), 8 V+ (power)
part A pins: 1 OUTA (out), 2 INA- (in), 3 INA+ (in)
part B pins: 5 INB+ (in), 6 INB- (in), 7 OUTB (out)

## LMV552MMX/NOPB
designator U?
3 MHz, Micropower RRO Amplifier, 8-pin Mini SOIC, Pb-Free; PartNumber: LMV552MMX/NOPB; Manufacturer: National Semiconductor; PackageTopMarking: ZXTT*AH3A; PowerWise: N; CompType: Amplifiers; Published: 1-Mar-2010; DatasheetVersion: Oct-2008; PackageVersion: revF, Apr-2008; PackageReference: MUA08A; Publisher: Altium Limited; PackageDescription: MINI SOIC, .118 x .118 x .034in, 8 Lead, .0256in Pitch; Supplier 1: Digi-Key; Supplier Part Number 1: LMV552MMX-ND; RoHS: Y; PinCount: 8; Code_JEDEC: MO-187-AA; ComponentLink1Description: LMV552 Datasheet; ComponentLink1URL: http://www.national.com/ds/LM/LMV552.pdf; ComponentLink2Description: LMV552 Web Page; ComponentLink2URL: http://www.national.com/pf/LM/LMV552.html; ComponentLink3Description: MUA08A Package Page; ComponentLink3URL: http://www.national.com/packaging/folders/mua08a.html
footprint MUA08A_N (TSOP, 8-Leads, Body 3x3mm, Pitch 0.65mm, IPC Medium Density)
footprint MUA08A_L (TSOP, 8-Leads, Body 3x3mm, Pitch 0.65mm, IPC High Density)
footprint MUA08A_M (TSOP, 8-Leads, Body 3x3mm, Pitch 0.65mm, IPC Low Density)
simulation model LMV552 (SUBCKT)
pins on every part: 4 V- (power), 8 V+ (power)
part A pins: 1 OUTA (out), 2 INA- (in), 3 INA+ (in)
part B pins: 5 INB+ (in), 6 INB- (in), 7 OUTB (out)

## LMV554MT
designator U?
3 MHz, Micropower RRO Amplifier, 14-pin TSSOP; PartNumber: LMV554MT; Manufacturer: National Semiconductor; PackageTopMarking: NSUZXYTT*LMV55*4MT; PowerWise: Y; CompType: Amplifiers; Published: 4-Dec-2008; LatestRevisionDate: 13-Jan-2009; LatestRevisionNote: Sim Model Added.; DatasheetVersion: Oct-2008; PackageVersion: revD, Jun-2003; PackageReference: MTC14; Publisher: Altium Limited; PackageDescription: Molded TSSOP, JEDEC, 5 x 4.4 x 0.9mm Body, 14 Lead, 0.65mm Pitch; RoHS: Y; PinCount: 14; Code_JEDEC: MO-153-AB-1; ComponentLink1Description: LMV554 Datasheet; ComponentLink1URL: http://www.national.com/ds/LM/LMV554.pdf; ComponentLink2Description: LMV554 Web Page; ComponentLink2URL: http://www.national.com/pf/LM/LMV554.html; ComponentLink3Description: MTC14 Package Page; ComponentLink3URL: http://www.national.com/packaging/folders/mtc14.html
footprint MTC14_N (TSOP, 14-Leads, Body 5x4.4mm, Pitch 0.65mm, IPC Medium Density)
footprint MTC14_L (TSOP, 14-Leads, Body 5x4.4mm, Pitch 0.65mm, IPC High Density)
footprint MTC14_M (TSOP, 14-Leads, Body 5x4.4mm, Pitch 0.65mm, IPC Low Density)
simulation model LMV554 (SUBCKT)
pins on every part: 4 V+ (power), 11 V- (power)
part A pins: 1 OUTA (out), 2 INA- (in), 3 INA+ (in)
part B pins: 5 INB+ (in), 6 INB- (in), 7 OUTB (out)
part C pins: 8 OUTC (out), 9 INC- (in), 10 INC+ (in)
part D pins: 12 IND+ (in), 13 IND- (in), 14 OUTD (out)

## LMV554MT/NOPB
designator U?
3 MHz, Micropower RRO Amplifier, 14-pin TSSOP, Pb-Free; PartNumber: LMV554MT/NOPB; Manufacturer: National Semiconductor; PackageTopMarking: NSUZXYTT*LMV55*4MT; PowerWise: Y; CompType: Amplifiers; Published: 1-Mar-2010; DatasheetVersion: Oct-2008; PackageVersion: revD, Jun-2003; PackageReference: MTC14; Publisher: Altium Limited; PackageDescription: Molded TSSOP, JEDEC, 5 x 4.4 x 0.9mm Body, 14 Lead, 0.65mm Pitch; Supplier 1: Digi-Key; Supplier Part Number 1: LMV554MT-ND; RoHS: Y; PinCount: 14; Code_JEDEC: MO-153-AB-1; ComponentLink1Description: LMV554 Datasheet; ComponentLink1URL: http://www.national.com/ds/LM/LMV554.pdf; ComponentLink2Description: LMV554 Web Page; ComponentLink2URL: http://www.national.com/pf/LM/LMV554.html; ComponentLink3Description: MTC14 Package Page; ComponentLink3URL: http://www.national.com/packaging/folders/mtc14.html
footprint MTC14_N (TSOP, 14-Leads, Body 5x4.4mm, Pitch 0.65mm, IPC Medium Density)
footprint MTC14_L (TSOP, 14-Leads, Body 5x4.4mm, Pitch 0.65mm, IPC High Density)
footprint MTC14_M (TSOP, 14-Leads, Body 5x4.4mm, Pitch 0.65mm, IPC Low Density)
simulation model LMV554 (SUBCKT)
pins on every part: 4 V+ (power), 11 V- (power)
part A pins: 1 OUTA (out), 2 INA- (in), 3 INA+ (in)
part B pins: 5 INB+ (in), 6 INB- (in), 7 OUTB (out)
part C pins: 8 OUTC (out), 9 INC- (in), 10 INC+ (in)
part D pins: 12 IND+ (in), 13 IND- (in), 14 OUTD (out)

## LMV554MTX/NOPB
designator U?
3 MHz, Micropower RRO Amplifier, 14-pin TSSOP, Pb-Free; PartNumber: LMV554MTX/NOPB; Manufacturer: National Semiconductor; PackageTopMarking: NSUZXYTT*LMV55*4MT; PowerWise: Y; CompType: Amplifiers; Published: 1-Mar-2010; DatasheetVersion: Oct-2008; PackageVersion: revD, Jun-2003; PackageReference: MTC14; Publisher: Altium Limited; PackageDescription: Molded TSSOP, JEDEC, 5 x 4.4 x 0.9mm Body, 14 Lead, 0.65mm Pitch; Supplier 1: Digi-Key; Supplier Part Number 1: LMV554MTX-ND; RoHS: Y; PinCount: 14; Code_JEDEC: MO-153-AB-1; ComponentLink1Description: LMV554 Datasheet; ComponentLink1URL: http://www.national.com/ds/LM/LMV554.pdf; ComponentLink2Description: LMV554 Web Page; ComponentLink2URL: http://www.national.com/pf/LM/LMV554.html; ComponentLink3Description: MTC14 Package Page; ComponentLink3URL: http://www.national.com/packaging/folders/mtc14.html
footprint MTC14_N (TSOP, 14-Leads, Body 5x4.4mm, Pitch 0.65mm, IPC Medium Density)
footprint MTC14_L (TSOP, 14-Leads, Body 5x4.4mm, Pitch 0.65mm, IPC High Density)
footprint MTC14_M (TSOP, 14-Leads, Body 5x4.4mm, Pitch 0.65mm, IPC Low Density)
simulation model LMV554 (SUBCKT)
pins on every part: 4 V+ (power), 11 V- (power)
part A pins: 1 OUTA (out), 2 INA- (in), 3 INA+ (in)
part B pins: 5 INB+ (in), 6 INB- (in), 7 OUTB (out)
part C pins: 8 OUTC (out), 9 INC- (in), 10 INC+ (in)
part D pins: 12 IND+ (in), 13 IND- (in), 14 OUTD (out)

## LMV641MA
designator U?
10 MHz, 12V, Low Power Amplifier, 8-pin Narrow SOIC; PartNumber: LMV641MA; Manufacturer: National Semiconductor; PackageTopMarking: NSZXTT*LMV64*1MA; PowerWise: Y; CompType: Amplifiers; Published: 4-Dec-2008; LatestRevisionDate: 13-Jan-2009; LatestRevisionNote: Sim Model Added.; DatasheetVersion: Sep-2007; PackageVersion: revM, May-2009; PackageReference: M08A; Publisher: Altium Limited; PackageDescription: SOIC Narrow, 4.9 x 3.9 x 1.45mm, 8 Lead, 1.27mm Pitch; RoHS: Y; PinCount: 8; Code_JEDEC: MS-012-AA; Code_IPC: SOIC127P600-8; ComponentLink1Description: LMV641 Datasheet; ComponentLink1URL: http://www.national.com/ds/LM/LMV641.pdf; ComponentLink2Description: LMV641 Web Page; ComponentLink2URL: http://www.national.com/pf/LM/LMV641.html; ComponentLink3Description: M08A Package Page; ComponentLink3URL: http://www.national.com/packaging/folders/m08a.html
footprint M08A_N (SOIC, 8-Leads, Body 4.9x3.9mm, Pitch 1.27mm, IPC Medium Density)
footprint M08A_L (SOIC, 8-Leads, Body 4.9x3.9mm, Pitch 1.27mm, IPC High Density)
footprint M08A_M (SOIC, 8-Leads, Body 4.9x3.9mm, Pitch 1.27mm, IPC Low Density)
simulation model LMV641 (SUBCKT)
pins: 1 NC, 2 IN- (in), 3 IN+ (in), 4 V- (power), 5 NC, 6 OUT (out), 7 V+ (power), 8 NC

## LMV641MA/NOPB
designator U?
10 MHz, 12V, Low Power Amplifier, 8-pin Narrow SOIC, Pb-Free; PartNumber: LMV641MA/NOPB; Manufacturer: National Semiconductor; PackageTopMarking: NSZXTT*LMV64*1MA; PowerWise: Y; CompType: Amplifiers; Published: 1-Mar-2010; DatasheetVersion: Sep-2007; PackageVersion: revM, May-2009; PackageReference: M08A; Publisher: Altium Limited; PackageDescription: SOIC Narrow, 4.9 x 3.9 x 1.45mm, 8 Lead, 1.27mm Pitch; Supplier 1: Digi-Key; Supplier Part Number 1: LMV641MA-ND; RoHS: Y; PinCount: 8; Code_JEDEC: MS-012-AA; Code_IPC: SOIC127P600-8; ComponentLink1Description: LMV641 Datasheet; ComponentLink1URL: http://www.national.com/ds/LM/LMV641.pdf; ComponentLink2Description: LMV641 Web Page; ComponentLink2URL: http://www.national.com/pf/LM/LMV641.html; ComponentLink3Description: M08A Package Page; ComponentLink3URL: http://www.national.com/packaging/folders/m08a.html
footprint M08A_N (SOIC, 8-Leads, Body 4.9x3.9mm, Pitch 1.27mm, IPC Medium Density)
footprint M08A_L (SOIC, 8-Leads, Body 4.9x3.9mm, Pitch 1.27mm, IPC High Density)
footprint M08A_M (SOIC, 8-Leads, Body 4.9x3.9mm, Pitch 1.27mm, IPC Low Density)
simulation model LMV641 (SUBCKT)
pins: 1 NC, 2 IN- (in), 3 IN+ (in), 4 V- (power), 5 NC, 6 OUT (out), 7 V+ (power), 8 NC

## LMV641MAE/NOPB
designator U?
10 MHz, 12V, Low Power Amplifier, 8-pin Narrow SOIC, Pb-Free; PartNumber: LMV641MAE/NOPB; Manufacturer: National Semiconductor; PackageTopMarking: NSZXTT*LMV64*1MA; PowerWise: Y; CompType: Amplifiers; Published: 1-Mar-2010; DatasheetVersion: Sep-2007; PackageVersion: revM, May-2009; PackageReference: M08A; Publisher: Altium Limited; PackageDescription: SOIC Narrow, 4.9 x 3.9 x 1.45mm, 8 Lead, 1.27mm Pitch; Supplier 1: Digi-Key; Supplier Part Number 1: LMV641MAE-ND; RoHS: Y; PinCount: 8; Code_JEDEC: MS-012-AA; Code_IPC: SOIC127P600-8; ComponentLink1Description: LMV641 Datasheet; ComponentLink1URL: http://www.national.com/ds/LM/LMV641.pdf; ComponentLink2Description: LMV641 Web Page; ComponentLink2URL: http://www.national.com/pf/LM/LMV641.html; ComponentLink3Description: M08A Package Page; ComponentLink3URL: http://www.national.com/packaging/folders/m08a.html
footprint M08A_N (SOIC, 8-Leads, Body 4.9x3.9mm, Pitch 1.27mm, IPC Medium Density)
footprint M08A_L (SOIC, 8-Leads, Body 4.9x3.9mm, Pitch 1.27mm, IPC High Density)
footprint M08A_M (SOIC, 8-Leads, Body 4.9x3.9mm, Pitch 1.27mm, IPC Low Density)
simulation model LMV641 (SUBCKT)
pins: 1 NC, 2 IN- (in), 3 IN+ (in), 4 V- (power), 5 NC, 6 OUT (out), 7 V+ (power), 8 NC

## LMV641MAX/NOPB
designator U?
10 MHz, 12V, Low Power Amplifier, 8-pin Narrow SOIC, Pb-Free; PartNumber: LMV641MAX/NOPB; Manufacturer: National Semiconductor; PackageTopMarking: NSZXTT*LMV64*1MA; PowerWise: Y; CompType: Amplifiers; Published: 1-Mar-2010; DatasheetVersion: Sep-2007; PackageVersion: revM, May-2009; PackageReference: M08A; Publisher: Altium Limited; PackageDescription: SOIC Narrow, 4.9 x 3.9 x 1.45mm, 8 Lead, 1.27mm Pitch; Supplier 1: Digi-Key; Supplier Part Number 1: LMV641MAX-ND; RoHS: Y; PinCount: 8; Code_JEDEC: MS-012-AA; Code_IPC: SOIC127P600-8; ComponentLink1Description: LMV641 Datasheet; ComponentLink1URL: http://www.national.com/ds/LM/LMV641.pdf; ComponentLink2Description: LMV641 Web Page; ComponentLink2URL: http://www.national.com/pf/LM/LMV641.html; ComponentLink3Description: M08A Package Page; ComponentLink3URL: http://www.national.com/packaging/folders/m08a.html
footprint M08A_N (SOIC, 8-Leads, Body 4.9x3.9mm, Pitch 1.27mm, IPC Medium Density)
footprint M08A_L (SOIC, 8-Leads, Body 4.9x3.9mm, Pitch 1.27mm, IPC High Density)
footprint M08A_M (SOIC, 8-Leads, Body 4.9x3.9mm, Pitch 1.27mm, IPC Low Density)
simulation model LMV641 (SUBCKT)
pins: 1 NC, 2 IN- (in), 3 IN+ (in), 4 V- (power), 5 NC, 6 OUT (out), 7 V+ (power), 8 NC

## LMV641MG
designator U?
10 MHz, 12V, Low Power Amplifier, 5-pin SC-70; PartNumber: LMV641MG; Manufacturer: National Semiconductor; PackageTopMarking: A99*XTT; PowerWise: Y; CompType: Amplifiers; Published: 4-Dec-2008; LatestRevisionDate: 13-Jan-2009; LatestRevisionNote: Sim Model Added.; DatasheetVersion: Sep-2007; PackageVersion: revD, Jun-2007; PackageReference: MAA05A; Publisher: Altium Limited; PackageDescription: Molded SC-70, 2 x 1.25 x .9mm, 5 Lead, 0.65mm Pitch; RoHS: Y; PinCount: 5; Code_JEITA: SC-88A; Code_JEDEC: MO-203-AA; Code_IPC: SOT353-5; ComponentLink1Description: LMV641 Datasheet; ComponentLink1URL: http://www.national.com/ds/LM/LMV641.pdf; ComponentLink2Description: LMV641 Web Page; ComponentLink2URL: http://www.national.com/pf/LM/LMV641.html; ComponentLink3Description: MAA05A Package Page; ComponentLink3URL: http://www.national.com/packaging/folders/maa05a.html
footprint MAA05A_N (SOT353, 5-Leads, Body 2x1.3mm, Pitch 0.65mm, Lead Span 2.1mm, IPC Medium Density)
footprint MAA05A_L (SOT353, 5-Leads, Body 2x1.3mm, Pitch 0.65mm, Lead Span 2.1mm, IPC High Density)
footprint MAA05A_M (SOT353, 5-Leads, Body 2x1.3mm, Pitch 0.65mm, Lead Span 2.1mm, IPC Low Density)
simulation model LMV641 (SUBCKT)
pins: 1 OUT (out), 2 V- (power), 3 IN+ (in), 4 IN- (in), 5 V+ (power)

## LMV641MG/NOPB
designator U?
10 MHz, 12V, Low Power Amplifier, 5-pin SC-70, Pb-Free; PartNumber: LMV641MG/NOPB; Manufacturer: National Semiconductor; PackageTopMarking: A99*XTT; PowerWise: Y; CompType: Amplifiers; Published: 1-Mar-2010; DatasheetVersion: Sep-2007; PackageVersion: revD, Jun-2007; PackageReference: MAA05A; Publisher: Altium Limited; PackageDescription: Molded SC-70, 2 x 1.25 x .9mm, 5 Lead, 0.65mm Pitch; Supplier 1: Digi-Key; Supplier Part Number 1: LMV641MG-ND; RoHS: Y; PinCount: 5; Code_JEITA: SC-88A; Code_JEDEC: MO-203-AA; Code_IPC: SOT353-5; ComponentLink1Description: LMV641 Datasheet; ComponentLink1URL: http://www.national.com/ds/LM/LMV641.pdf; ComponentLink2Description: LMV641 Web Page; ComponentLink2URL: http://www.national.com/pf/LM/LMV641.html; ComponentLink3Description: MAA05A Package Page; ComponentLink3URL: http://www.national.com/packaging/folders/maa05a.html
footprint MAA05A_N (SOT353, 5-Leads, Body 2x1.3mm, Pitch 0.65mm, Lead Span 2.1mm, IPC Medium Density)
footprint MAA05A_L (SOT353, 5-Leads, Body 2x1.3mm, Pitch 0.65mm, Lead Span 2.1mm, IPC High Density)
footprint MAA05A_M (SOT353, 5-Leads, Body 2x1.3mm, Pitch 0.65mm, Lead Span 2.1mm, IPC Low Density)
simulation model LMV641 (SUBCKT)
pins: 1 OUT (out), 2 V- (power), 3 IN+ (in), 4 IN- (in), 5 V+ (power)

## LMV641MGE/NOPB
designator U?
10 MHz, 12V, Low Power Amplifier, 5-pin SC-70, Pb-Free; PartNumber: LMV641MGE/NOPB; Manufacturer: National Semiconductor; PackageTopMarking: A99*XTT; PowerWise: Y; CompType: Amplifiers; Published: 1-Mar-2010; DatasheetVersion: Sep-2007; PackageVersion: revD, Jun-2007; PackageReference: MAA05A; Publisher: Altium Limited; PackageDescription: Molded SC-70, 2 x 1.25 x .9mm, 5 Lead, 0.65mm Pitch; Supplier 1: Digi-Key; Supplier Part Number 1: LMV641MGETR-ND; Supplier 2: Digi-Key; Supplier Part Number 2: LMV641MGECT-ND; Supplier 3: Digi-Key; Supplier Part Number 3: LMV641MGEDKR-ND; Supplier 4: Farnell; Supplier Part Number 4: 1511041; RoHS: Y; PinCount: 5; Code_JEITA: SC-88A; Code_JEDEC: MO-203-AA; Code_IPC: SOT353-5; ComponentLink1Description: LMV641 Datasheet; ComponentLink1URL: http://www.national.com/ds/LM/LMV641.pdf; ComponentLink2Description: LMV641 Web Page; ComponentLink2URL: http://www.national.com/pf/LM/LMV641.html; ComponentLink3Description: MAA05A Package Page; ComponentLink3URL: http://www.national.com/packaging/folders/maa05a.html
footprint MAA05A_N (SOT353, 5-Leads, Body 2x1.3mm, Pitch 0.65mm, Lead Span 2.1mm, IPC Medium Density)
footprint MAA05A_L (SOT353, 5-Leads, Body 2x1.3mm, Pitch 0.65mm, Lead Span 2.1mm, IPC High Density)
footprint MAA05A_M (SOT353, 5-Leads, Body 2x1.3mm, Pitch 0.65mm, Lead Span 2.1mm, IPC Low Density)
simulation model LMV641 (SUBCKT)
pins: 1 OUT (out), 2 V- (power), 3 IN+ (in), 4 IN- (in), 5 V+ (power)

## LMV641MGX/NOPB
designator U?
10 MHz, 12V, Low Power Amplifier, 5-pin SC-70, Pb-Free; PartNumber: LMV641MGX/NOPB; Manufacturer: National Semiconductor; PackageTopMarking: A99*XTT; PowerWise: Y; CompType: Amplifiers; Published: 1-Mar-2010; DatasheetVersion: Sep-2007; PackageVersion: revD, Jun-2007; PackageReference: MAA05A; Publisher: Altium Limited; PackageDescription: Molded SC-70, 2 x 1.25 x .9mm, 5 Lead, 0.65mm Pitch; Supplier 1: Digi-Key; Supplier Part Number 1: LMV641MGX-ND; RoHS: Y; PinCount: 5; Code_JEITA: SC-88A; Code_JEDEC: MO-203-AA; Code_IPC: SOT353-5; ComponentLink1Description: LMV641 Datasheet; ComponentLink1URL: http://www.national.com/ds/LM/LMV641.pdf; ComponentLink2Description: LMV641 Web Page; ComponentLink2URL: http://www.national.com/pf/LM/LMV641.html; ComponentLink3Description: MAA05A Package Page; ComponentLink3URL: http://www.national.com/packaging/folders/maa05a.html
footprint MAA05A_N (SOT353, 5-Leads, Body 2x1.3mm, Pitch 0.65mm, Lead Span 2.1mm, IPC Medium Density)
footprint MAA05A_L (SOT353, 5-Leads, Body 2x1.3mm, Pitch 0.65mm, Lead Span 2.1mm, IPC High Density)
footprint MAA05A_M (SOT353, 5-Leads, Body 2x1.3mm, Pitch 0.65mm, Lead Span 2.1mm, IPC Low Density)
simulation model LMV641 (SUBCKT)
pins: 1 OUT (out), 2 V- (power), 3 IN+ (in), 4 IN- (in), 5 V+ (power)